# Altium schematic symbol library OS103011MS8QP1.SchLib: 2 symbols
Pins are listed as number, name and electrical type; pins without a type are passive.

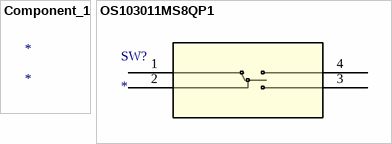
[diagram p0: symbols Component_1 to OS103011MS8QP1]

## Component_1
designator *

## OS103011MS8QP1
designator SW?
No Description Available; Mfr_Name: C&K Components; Type: Slide Switches; RefDes: RefDes
footprint DIP4_SP3T-TOP_4P3X8P6_CNK
pins: 1, 2, 3, 4